# EAGLE library part 233DH (library brandonsmith)
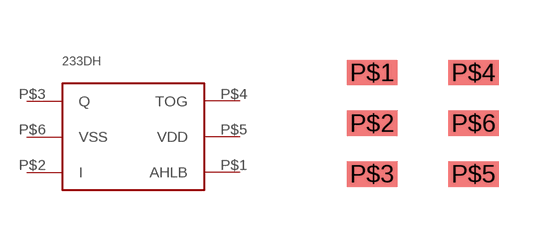
[diagram p2: symbol with the pads of 233DH; footprint 233DH]

Designator prefix -

## 233DH  [233DH]
P$1  AHLB
P$2  I
P$3  Q
P$4  TOG
P$5  VDD
P$6  VSS

## Footprint 233DH (pad centres in mm)
smd 1.27 x 0.635: P$1 -17.78,3.81; P$2 -17.78,2.54; P$3 -17.78,1.27; P$4 -15.24,3.81; P$5 -15.24,1.27; P$6 -15.24,2.54